# EAGLE library part SR1X11 (library divers)
Rotary Switch 1*11 The dot in the symbol denotes the leftmost contact of the rotary switch (counterclockwise limit)
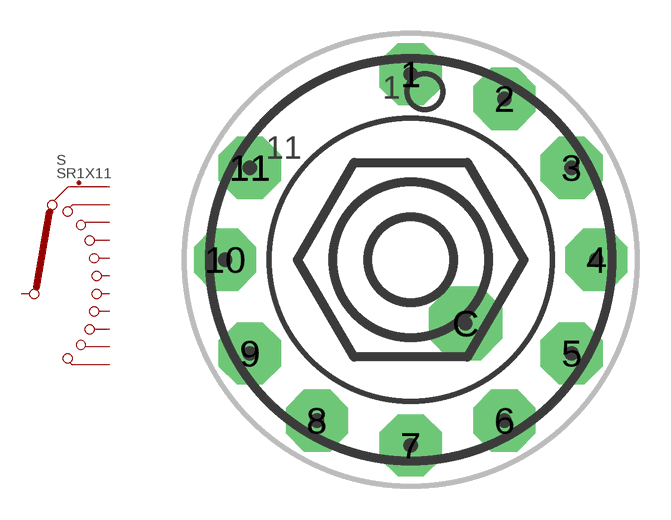
[diagram p13: symbol with the pads of SR1X11-ELMA1; footprint SR1X11-ELMA1]

Designator prefix S

## SR1X11  [SR1X11-ELMA1]
1  1
2  2
3  3
4  4
5  5
6  6
7  7
8  8
9  9
10  10
11  11
C  C

## Footprint SR1X11-ELMA1 (pad centres in mm)
Rotary Switch 1*11 (18mm) - ELMA Typ 1
drill 1.295 pad 2.794 octagon: 1 0,8.334; 2 4.207,7.223; 3 7.223,4.128; 4 8.334,0; 5 7.223,-4.207; 6 4.207,-7.223; 7 0,-8.334; 8 -4.207,-7.223; 9 -7.223,-4.207; 10 -8.334,0; 11 -7.223,4.128
drill 1.499 pad 3.302 octagon: C 2.461,-2.857